# Altium schematic symbol library Mount Schematics.SchLib: 1 symbol
Pins are listed as number, name and electrical type; pins without a type are passive.

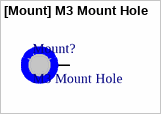
[diagram p0: symbol [Mount] M3 Mount Hole]

## [Mount] M3 Mount Hole
designator Mount?, comment M3 Mount Hole  (no BOM)
Place at least 4.5mm from board edge. Plated.
footprint [Mount] M3 Mount Hole
pins: 1 (power)